# Altium footprint library bp2u+.PcbLib: 1 footprints
Each footprint in its own frame and in the unit in brackets; x right, y up, seen from the top. Pads: shape width x height; smd on the part's side, far side on the other; paste and mask are expansions set on the pad; w line width, h text height; cw(c..) or ccw(c..) is an arc to the next point about the centre after c.
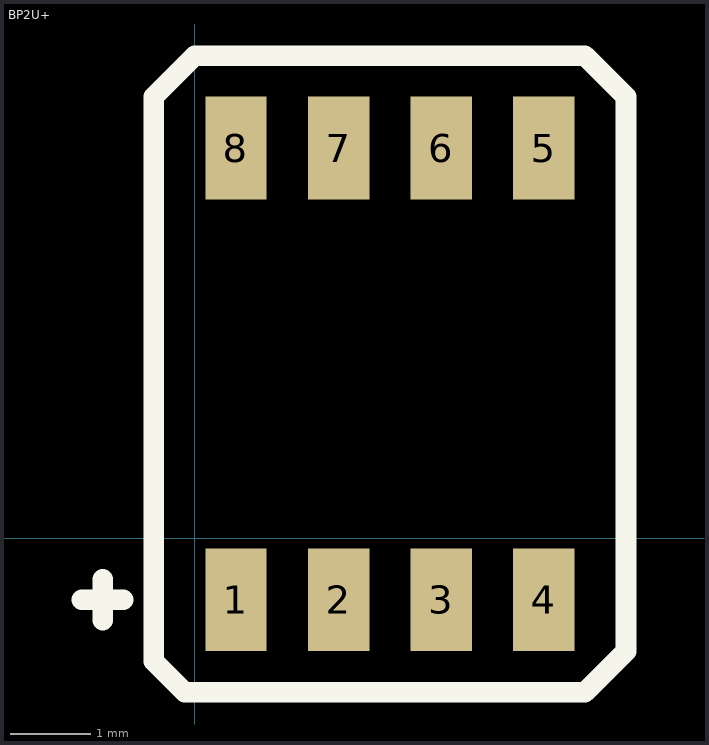
[diagram p0: the footprint, top view; thin cyan lines are the x and y axes]

## BP2U+ [mil]
pads (8):
  rect 29.92x50 smd: 1(20,-30) 2(70,-30) 3(120,-30) 4(170,-30) 5(170,190.08) 6(120,190.08) 7(70,190.08) 8(20,190.08)
Top Overlay:
  lines w10: -55,-30 -35,-30 ; -45,-40 -45,-20 ; -20,-60 -20,215 0,235 190,235 210,215 210,-55 190,-75 -5,-75 -20,-60